# EAGLE library part 3X4-REAR-SHIELDED (library grayhill-keypad)
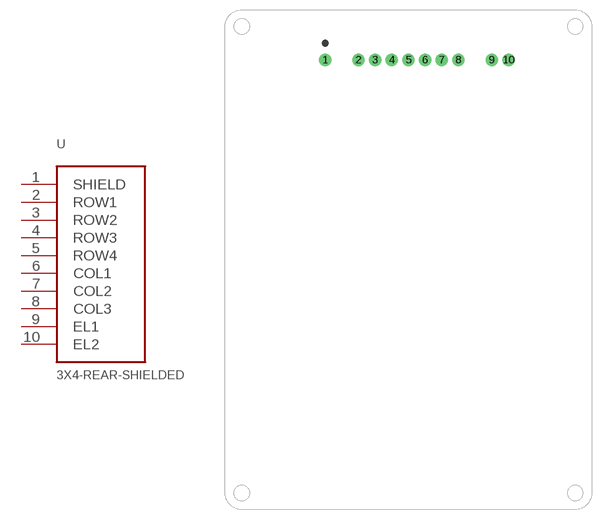
[diagram p0: symbol with the pads of 3X4-REAR-SHIELDED; footprint 3X4-REAR-SHIELDED]

Designator prefix -

## 3X4-REAR-SHIELDED  [3X4-REAR-SHIELDED]
1  SHIELD
2  ROW1
3  ROW2
4  ROW3
5  ROW4
6  COL1
7  COL2
8  COL3
9  EL1
10  EL2

## Footprint 3X4-REAR-SHIELDED (pad centres in mm)
drill 1.016 pad 1.88: 1 0,0; 2 5.08,0; 3 7.62,0; 4 10.16,0; 5 12.7,0; 6 15.24,0; 7 17.78,0; 8 20.32,0; 9 25.4,0; 10 27.94,0